# Altium schematic symbol library SCH - MCU - ATMEGA - MICROCHIP ATMEGA4809-MFR UQFN48.SchLib: 1 symbol
Pins are listed as number, name and electrical type; pins without a type are passive.

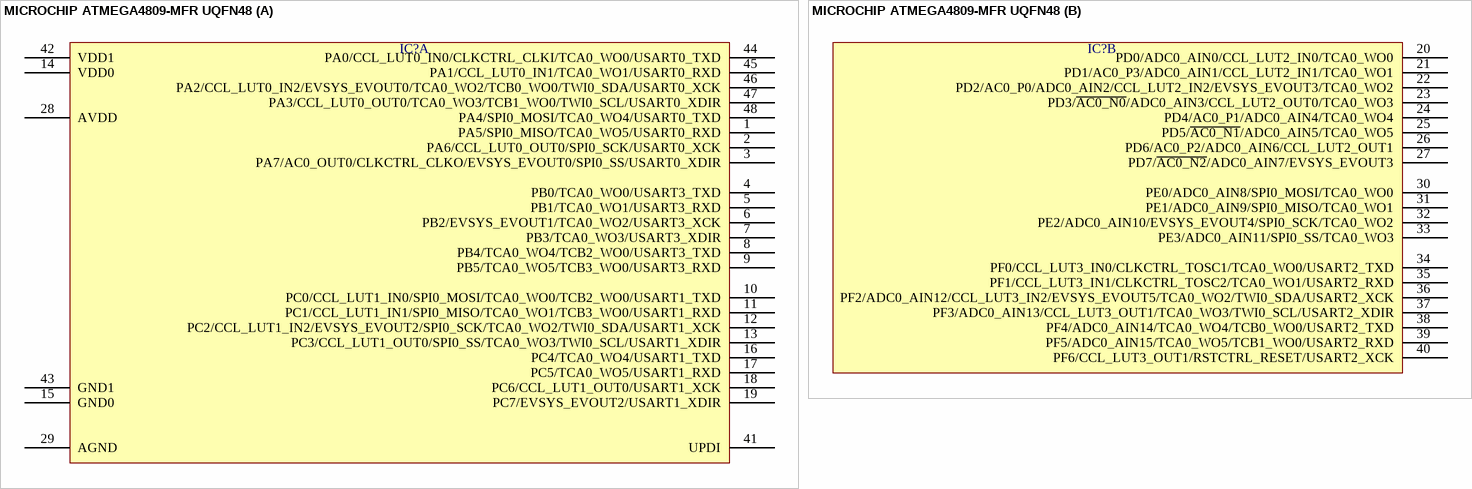
[diagram p0: symbol MICROCHIP ATMEGA4809-MFR UQFN48]

## MICROCHIP ATMEGA4809-MFR UQFN48
designator IC?  (value not drawn)
part A pins: 1 PA5/SPI0_MISO/TCA0_WO5/USART0_RXD, 2 PA6/CCL_LUT0_OUT0/SPI0_SCK/USART0_XCK, 3 PA7/AC0_OUT0/CLKCTRL_CLKO/EVSYS_EVOUT0/SPI0_SS/USART0_XDIR, 4 PB0/TCA0_WO0/USART3_TXD, 5 PB1/TCA0_WO1/USART3_RXD, 6 PB2/EVSYS_EVOUT1/TCA0_WO2/USART3_XCK, 7 PB3/TCA0_WO3/USART3_XDIR, 8 PB4/TCA0_WO4/TCB2_WO0/USART3_TXD, 9 PB5/TCA0_WO5/TCB3_WO0/USART3_RXD, 10 PC0/CCL_LUT1_IN0/SPI0_MOSI/TCA0_WO0/TCB2_WO0/USART1_TXD, 11 PC1/CCL_LUT1_IN1/SPI0_MISO/TCA0_WO1/TCB3_WO0/USART1_RXD, 12 PC2/CCL_LUT1_IN2/EVSYS_EVOUT2/SPI0_SCK/TCA0_WO2/TWI0_SDA/USART1_XCK, 13 PC3/CCL_LUT1_OUT0/SPI0_SS/TCA0_WO3/TWI0_SCL/USART1_XDIR, 14 VDD0, 15 GND0, 16 PC4/TCA0_WO4/USART1_TXD, 17 PC5/TCA0_WO5/USART1_RXD, 18 PC6/CCL_LUT1_OUT0/USART1_XCK, 19 PC7/EVSYS_EVOUT2/USART1_XDIR, 28 AVDD, 29 AGND, 41 UPDI, 42 VDD1, 43 GND1, 44 PA0/CCL_LUT0_IN0/CLKCTRL_CLKI/TCA0_WO0/USART0_TXD, 45 PA1/CCL_LUT0_IN1/TCA0_WO1/USART0_RXD, 46 PA2/CCL_LUT0_IN2/EVSYS_EVOUT0/TCA0_WO2/TCB0_WO0/TWI0_SDA/USART0_XCK, 47 PA3/CCL_LUT0_OUT0/TCA0_WO3/TCB1_WO0/TWI0_SCL/USART0_XDIR, 48 PA4/SPI0_MOSI/TCA0_WO4/USART0_TXD
part B pins: 20 PD0/ADC0_AIN0/CCL_LUT2_IN0/TCA0_WO0, 21 PD1/AC0_P3/ADC0_AIN1/CCL_LUT2_IN1/TCA0_WO1, 22 PD2/AC0_P0/ADC0_AIN2/CCL_LUT2_IN2/EVSYS_EVOUT3/TCA0_WO2, 23 PD3/~{AC0_N0}/ADC0_AIN3/CCL_LUT2_OUT0/TCA0_WO3, 24 PD4/AC0_P1/ADC0_AIN4/TCA0_WO4, 25 PD5/~{AC0_N1}/ADC0_AIN5/TCA0_WO5, 26 PD6/AC0_P2/ADC0_AIN6/CCL_LUT2_OUT1, 27 PD7/~{AC0_N2}/ADC0_AIN7/EVSYS_EVOUT3, 30 PE0/ADC0_AIN8/SPI0_MOSI/TCA0_WO0, 31 PE1/ADC0_AIN9/SPI0_MISO/TCA0_WO1, 32 PE2/ADC0_AIN10/EVSYS_EVOUT4/SPI0_SCK/TCA0_WO2, 33 PE3/ADC0_AIN11/SPI0_SS/TCA0_WO3, 34 PF0/CCL_LUT3_IN0/CLKCTRL_TOSC1/TCA0_WO0/USART2_TXD, 35 PF1/CCL_LUT3_IN1/CLKCTRL_TOSC2/TCA0_WO1/USART2_RXD, 36 PF2/ADC0_AIN12/CCL_LUT3_IN2/EVSYS_EVOUT5/TCA0_WO2/TWI0_SDA/USART2_XCK, 37 PF3/ADC0_AIN13/CCL_LUT3_OUT1/TCA0_WO3/TWI0_SCL/USART2_XDIR, 38 PF4/ADC0_AIN14/TCA0_WO4/TCB0_WO0/USART2_TXD, 39 PF5/ADC0_AIN15/TCA0_WO5/TCB1_WO0/USART2_RXD, 40 PF6/CCL_LUT3_OUT1/RSTCTRL_RESET/USART2_XCK